# EAGLE library part SN74AUP2G08 (library bschulz)
SN74AUP2G08 - AND, 2 Element, 2 Input Characteristics: VCC: 0.8 ~ 3.6v IQ = 0.9μA Operating Temperature: -40°C to 85°C Digikey: 296-25638-1-ND (DQE) <https://www.digikey.com/product-detail/en/texas-instruments/SN74AUP2G08DQER/296-25638-1-ND/2202460>
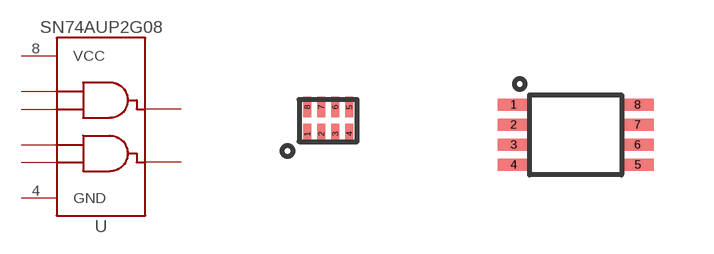
[diagram p67: symbol with the pads of DQE_R-PX2SON-N8; footprints DQE_R-PX2SON-N8, DCU_(S-PDSO-G8)]

Designator prefix U

## SN74AUP2G08DQE (DIGIKEY: 296-25638-1-ND; MF: TI; MPN: SN74AUP2G08DQER)  [DQE_R-PX2SON-N8]
1  A1  in
2  B1  in
3  Y2  out
4  GND  pwr
5  A2  in
6  B2  in
7  Y1  out
8  VCC  pwr

## SN74AUP2G08DCU (DIGIKEY: 296-32271-1-ND; MF: TI; MPN: SN74AUP2G08DCUR)  [DCU_(S-PDSO-G8)]
Pads as for DQE_R-PX2SON-N8

## Footprint DQE_R-PX2SON-N8 (pad centres in mm)
smd 0.19 x 0.51: 1 -0.525,-0.335; 2 -0.175,-0.335; 3 0.175,-0.335; 4 0.525,-0.335; 5 0.525,0.335; 6 0.175,0.335; 7 -0.175,0.335; 8 -0.525,0.335

## Footprint DCU_(S-PDSO-G8) (pad centres in mm)
DCU (S-PDSO-G8) PLASTIC SMALL OUTLINE PACKAGE (DIE DOWN) Soure: Data sheet <http://www.ti.com/lit/ds/symlink/ts5a21366.pdf>
smd 0.8 x 0.3: 1 -1.55,0.75; 2 -1.55,0.25; 3 -1.55,-0.25; 4 -1.55,-0.75; 5 1.55,-0.75; 6 1.55,-0.25; 7 1.55,0.25; 8 1.55,0.75